# EAGLE library part PINE64PRO (library pine64-hat)
PINE64 HAT
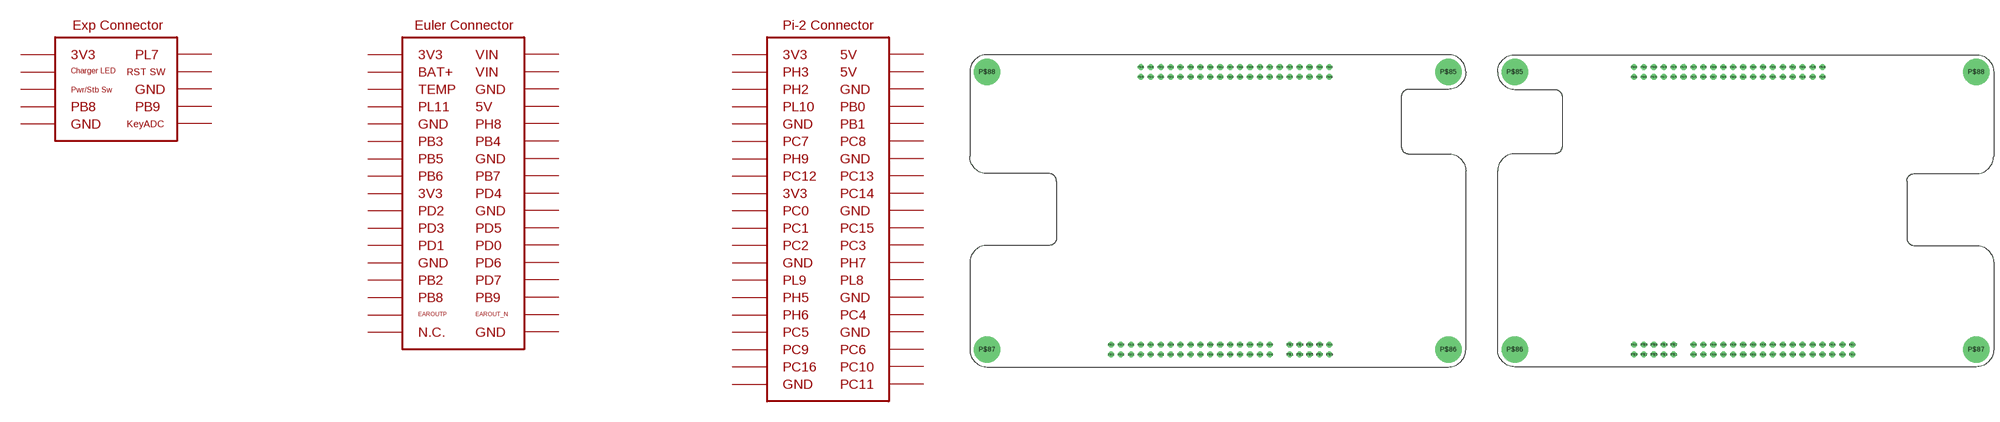
[diagram p0: symbol with the pads of PINE64PRO; footprints PINE64PRO, PINE64PRO-REVERT]

Designator prefix U

## PINE64PRONORMAL  [PINE64PRO]
P$1  P$1
P$2  P$2
P$3  P$3
P$4  P$4
P$5  P$5
P$6  P$6
P$7  P$7
P$8  P$8
P$9  P$9
P$10  P$10
P$11  P$11
P$12  P$12
P$13  P$13
P$14  P$14
P$15  P$15
P$16  P$16
P$17  P$17
P$18  P$18
P$19  P$19
P$20  P$20
P$21  P$21
P$22  P$22
P$23  P$23
P$24  P$24
P$25  P$25
P$26  P$26
P$27  P$27
P$28  P$28
P$29  P$29
P$30  P$30
P$31  P$31
P$32  P$32
P$33  P$33
P$34  P$34
P$35  P$35
P$36  P$36
P$37  P$37
P$38  P$38
P$39  P$39
P$40  P$40
P$41  P$41
P$42  P$42
P$43  P$43
P$44  P$44
P$45  P$45
P$46  P$46
P$47  P$47
P$48  P$48
P$49  P$49
P$50  P$50
P$51  P$51
P$52  P$52
P$53  P$53
P$54  P$54
P$55  P$55
P$56  P$56
P$57  P$57
P$58  P$58
P$59  P$59
P$60  P$60
P$61  P$61
P$62  P$62
P$63  P$63
P$64  P$64
P$65  P$65
P$66  P$66
P$67  P$67
P$68  P$68
P$69  P$69
P$70  P$70
P$71  P$71
P$72  P$72
P$73  P$73
P$74  P$74
P$75  P$75
P$76  P$76
P$77  P$77
P$78  P$78
P$79  P$79
P$80  P$80
P$81  P$81
P$82  P$82
P$83  P$83
P$84  P$84

## PINE64PROREVERT  [PINE64PRO-REVERT]
Pads as for PINE64PRO

## Footprint PINE64PRO (pad centres in mm)
drill 1.016: P$1 17.78,-39.37; P$2 17.78,-36.83; P$3 20.32,-39.37; P$4 20.32,-36.83; P$5 22.86,-39.37; P$6 22.86,-36.83; P$7 25.4,-39.37; P$8 25.4,-36.83; P$9 27.94,-39.37; P$10 27.94,-36.83; P$11 -27.94,-39.37; P$12 -27.94,-36.83; P$13 -25.4,-39.37; P$14 -25.4,-36.83; P$15 -22.86,-39.37; P$16 -22.86,-36.83; P$17 -20.32,-39.37; P$18 -20.32,-36.83; P$19 -17.78,-39.37; P$20 -17.78,-36.83; P$21 -15.24,-39.37; P$22 -15.24,-36.83; P$23 -12.7,-39.37; P$24 -12.7,-36.83; P$25 -10.16,-39.37; P$26 -10.16,-36.83; P$27 -7.62,-39.37; P$28 -7.62,-36.83; P$29 -5.08,-39.37; P$30 -5.08,-36.83; P$31 -2.54,-39.37; P$32 -2.54,-36.83; P$33 0,-39.37; P$34 0,-36.83; P$35 2.54,-39.37; P$36 2.54,-36.83; P$37 5.08,-39.37; P$38 5.08,-36.83; P$39 7.62,-39.37; P$40 7.62,-36.83; P$41 10.16,-39.37; P$42 10.16,-36.83; P$43 12.7,-39.37; P$44 12.7,-36.83; P$45 -20.32,31.75; P$46 -20.32,34.29; P$47 -17.78,31.75; P$48 -17.78,34.29; P$49 -15.24,31.75; P$50 -15.24,34.29; P$51 -12.7,31.75; P$52 -12.7,34.29; P$53 -10.16,31.75; P$54 -10.16,34.29; P$55 -7.62,31.75; P$56 -7.62,34.29; P$57 -5.08,31.75; P$58 -5.08,34.29; P$59 -2.54,31.75; P$60 -2.54,34.29; P$61 0,31.75; P$62 0,34.29; P$63 2.54,31.75; P$64 2.54,34.29; P$65 5.08,31.75; P$66 5.08,34.29; P$67 7.62,31.75; P$68 7.62,34.29; P$69 10.16,31.75; P$70 10.16,34.29; P$71 12.7,31.75; P$72 12.7,34.29; P$73 15.24,31.75; P$74 15.24,34.29; P$75 17.78,31.75; P$76 17.78,34.29; P$77 20.32,31.75; P$78 20.32,34.29; P$79 22.86,31.75; P$80 22.86,34.29; P$81 25.4,31.75; P$82 25.4,34.29; P$83 27.94,31.75; P$84 27.94,34.29
drill 3.2 pad 6.8: P$85 58.42,33.02; P$86 58.42,-38.1; P$87 -59.69,-38.1; P$88 -59.69,33.02

## Footprint PINE64PRO-REVERT (pad centres in mm)
drill 1.016: P$1 -17.78,-36.83; P$2 -17.78,-34.29; P$3 -20.32,-36.83; P$4 -20.32,-34.29; P$5 -22.86,-36.83; P$6 -22.86,-34.29; P$7 -25.4,-36.83; P$8 -25.4,-34.29; P$9 -27.94,-36.83; P$10 -27.94,-34.29; P$11 27.94,-36.83; P$12 27.94,-34.29; P$13 25.4,-36.83; P$14 25.4,-34.29; P$15 22.86,-36.83; P$16 22.86,-34.29; P$17 20.32,-36.83; P$18 20.32,-34.29; P$19 17.78,-36.83; P$20 17.78,-34.29; P$21 15.24,-36.83; P$22 15.24,-34.29; P$23 12.7,-36.83; P$24 12.7,-34.29; P$25 10.16,-36.83; P$26 10.16,-34.29; P$27 7.62,-36.83; P$28 7.62,-34.29; P$29 5.08,-36.83; P$30 5.08,-34.29; P$31 2.54,-36.83; P$32 2.54,-34.29; P$33 0,-36.83; P$34 0,-34.29; P$35 -2.54,-36.83; P$36 -2.54,-34.29; P$37 -5.08,-36.83; P$38 -5.08,-34.29; P$39 -7.62,-36.83; P$40 -7.62,-34.29; P$41 -10.16,-36.83; P$42 -10.16,-34.29; P$43 -12.7,-36.83; P$44 -12.7,-34.29; P$45 20.32,34.29; P$46 20.32,36.83; P$47 17.78,34.29; P$48 17.78,36.83; P$49 15.24,34.29; P$50 15.24,36.83; P$51 12.7,34.29; P$52 12.7,36.83; P$53 10.16,34.29; P$54 10.16,36.83; P$55 7.62,34.29; P$56 7.62,36.83; P$57 5.08,34.29; P$58 5.08,36.83; P$59 2.54,34.29; P$60 2.54,36.83; P$61 0,34.29; P$62 0,36.83; P$63 -2.54,34.29; P$64 -2.54,36.83; P$65 -5.08,34.29; P$66 -5.08,36.83; P$67 -7.62,34.29; P$68 -7.62,36.83; P$69 -10.16,34.29; P$70 -10.16,36.83; P$71 -12.7,34.29; P$72 -12.7,36.83; P$73 -15.24,34.29; P$74 -15.24,36.83; P$75 -17.78,34.29; P$76 -17.78,36.83; P$77 -20.32,34.29; P$78 -20.32,36.83; P$79 -22.86,34.29; P$80 -22.86,36.83; P$81 -25.4,34.29; P$82 -25.4,36.83; P$83 -27.94,34.29; P$84 -27.94,36.83
drill 3.2 pad 6.8: P$85 -58.42,35.56; P$86 -58.42,-35.56; P$87 59.69,-35.56; P$88 59.69,35.56